# EAGLE library part HEADER_13P (library Public)
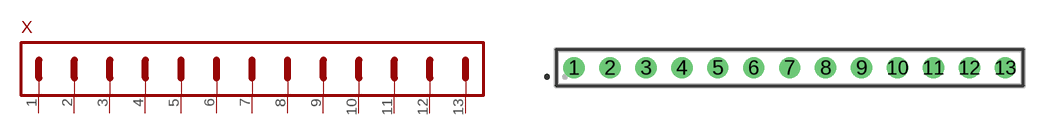
[diagram p17: symbol with the pads of HEADER_13P_1ROW_RM2.54MM_THT; footprint HEADER_13P_1ROW_RM2.54MM_THT]

Designator prefix X

## HEADER_13P(RM2.54MM_1ROW_THT)  [HEADER_13P_1ROW_RM2.54MM_THT]
1  PIN1
2  PIN2
3  PIN3
4  PIN4
5  PIN5
6  PIN6
7  PIN7
8  PIN8
9  PIN9
10  PIN10
11  PIN11
12  PIN12
13  PIN13

## Footprint HEADER_13P_1ROW_RM2.54MM_THT (pad centres in mm)
drill 1: 1 -15.24,0; 2 -12.7,0; 3 -10.16,0; 4 -7.62,0; 5 -5.08,0; 6 -2.54,0; 7 0,0; 8 2.54,0; 9 5.08,0; 10 7.62,0; 11 10.16,0; 12 12.7,0; 13 15.24,0